# Altium footprint library REMINAL_8.PcbLib: 1 footprints
Each footprint in its own frame and in the unit in brackets; x right, y up, seen from the top. Pads: shape width x height; smd on the part's side, far side on the other; paste and mask are expansions set on the pad; w line width, h text height; cw(c..) or ccw(c..) is an arc to the next point about the centre after c.
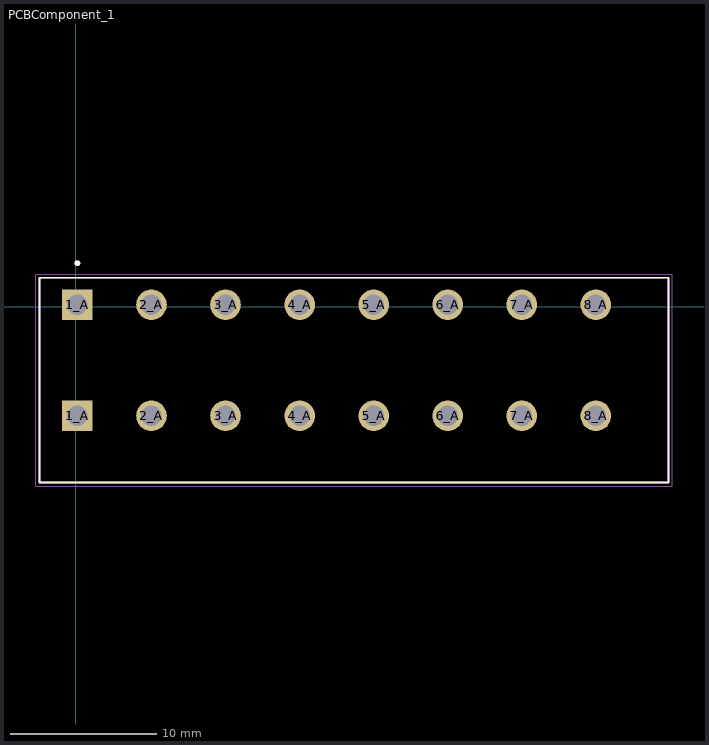
[diagram p0: the footprint, top view; thin cyan lines are the x and y axes]

## PCBComponent_1 [mm]
pads (16):
  rect 2.1x2.1 / inner round 2.1 / far side rect 2.1x2.1 hole 1.4 mask+0.102: 1_A(0.127,-7.493) 1_A(0.127,0.127)
  round 2.1 hole 1.4 mask+0.102: 2_A(5.207,-7.493) 2_A(5.207,0.127) 3_A(10.287,-7.493) 3_A(10.287,0.127) 4_A(15.367,-7.493) 4_A(15.367,0.127) 5_A(20.447,-7.493) 5_A(20.447,0.127) 6_A(25.527,-7.493) 6_A(25.527,0.127) 7_A(30.607,-7.493) 7_A(30.607,0.127) 8_A(35.687,-7.493) 8_A(35.687,0.127)
Top Overlay:
  circle w0.2: c0.127,2.977 r0.1
  lines w0.127: -2.473,-12.073 40.667,-12.073 40.667,1.977 -2.473,1.977 -2.473,-12.073
Mechanical 13:
  circle w0.2: c0.127,2.977 r0.1
  lines w0.127: -2.473,-12.073 40.667,-12.073 40.667,1.977 -2.473,1.977 -2.473,-12.073
Mechanical 15:
  lines w0.05: -2.723,-12.323 -2.723,2.227 40.917,2.227 40.917,-12.323 -2.723,-12.323
3D body: height 0.25, standoff 0, extent -2.266,-11.938 40.874,2.112